# EAGLE library part 61083-063402LF (library mezza)
61083-063402LF Amphenol FCI 61083-063402LF Connector Headers and PCB Receptacles MANUFACTURER : Amphenol FCI DESCRIPTION : Conn Fine Pitch Connector PL 60 POS 0.8mm Solder ST SMD T/R Note: DragonBoard 410c HS Connector This fine pitch connector 61083-063402LF header connector from FCI reduces the possibility of accidentally shorting pins when a board is being used. This PL connector's 60 contacts that are made out of brass and plated with gold over nickel. It has a plug type gender. Its pitch is 0.8 mm. It has a straight body orientation. It has a maximum voltage rating of 100 VAC. This is a 2-row connector. This device has a maximum current rating of 0.8 A/contact. Tape and reel packaging will encase the product during shipment, ensuring safe delivery and enabling quick mounting of components. This product is 29.8 mm long, 6.7 mm tall and 6 mm deep. 61083-063402LF is housed in liquid crystal polymer. It uses the solder termination method. This connector has an operating temperature of -40 to 125 °C.
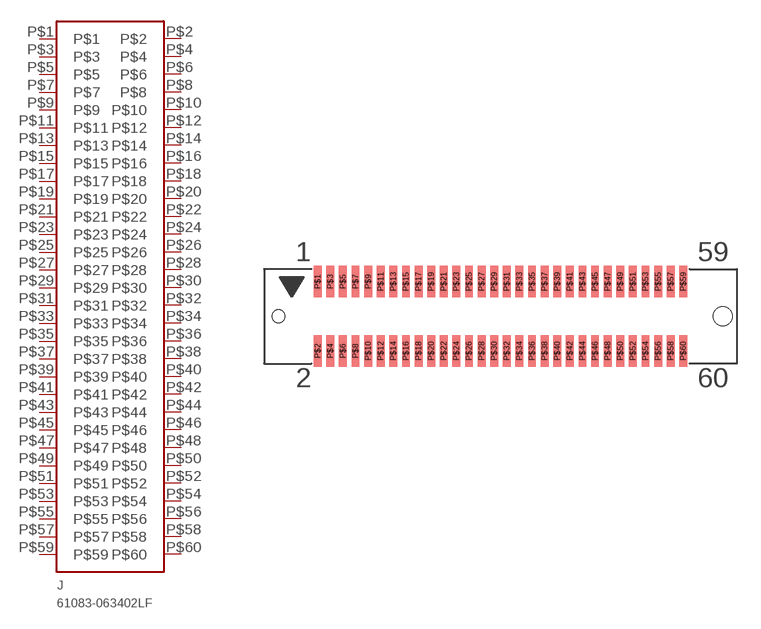
[diagram p1: symbol with the pads of 61083-063402LF; footprint 61083-063402LF]

Designator prefix J

## 61083-063402LF  [61083-063402LF]
P$1  P$1
P$2  P$2
P$3  P$3
P$4  P$4
P$5  P$5
P$6  P$6
P$7  P$7
P$8  P$8
P$9  P$9
P$10  P$10
P$11  P$11
P$12  P$12
P$13  P$13
P$14  P$14
P$15  P$15
P$16  P$16
P$17  P$17
P$18  P$18
P$19  P$19
P$20  P$20
P$21  P$21
P$22  P$22
P$23  P$23
P$24  P$24
P$25  P$25
P$26  P$26
P$27  P$27
P$28  P$28
P$29  P$29
P$30  P$30
P$31  P$31
P$32  P$32
P$33  P$33
P$34  P$34
P$35  P$35
P$36  P$36
P$37  P$37
P$38  P$38
P$39  P$39
P$40  P$40
P$41  P$41
P$42  P$42
P$43  P$43
P$44  P$44
P$45  P$45
P$46  P$46
P$47  P$47
P$48  P$48
P$49  P$49
P$50  P$50
P$51  P$51
P$52  P$52
P$53  P$53
P$54  P$54
P$55  P$55
P$56  P$56
P$57  P$57
P$58  P$58
P$59  P$59
P$60  P$60

## Footprint 61083-063402LF (pad centres in mm)
smd 0.5 x 2: P$1 -11.6,2.2; P$2 -11.6,-2.2; P$3 -10.8,2.2; P$4 -10.8,-2.2; P$5 -10,2.2; P$6 -10,-2.2; P$7 -9.2,2.2; P$8 -9.2,-2.2; P$9 -8.4,2.2; P$10 -8.4,-2.2; P$11 -7.6,2.2; P$12 -7.6,-2.2; P$13 -6.8,2.2; P$14 -6.8,-2.2; P$15 -6,2.2; P$16 -6,-2.2; P$17 -5.2,2.2; P$18 -5.2,-2.2; P$19 -4.4,2.2; P$20 -4.4,-2.2; P$21 -3.6,2.2; P$22 -3.6,-2.2; P$23 -2.8,2.2; P$24 -2.8,-2.2; P$25 -2,2.2; P$26 -2,-2.2; P$27 -1.2,2.2; P$28 -1.2,-2.2; P$29 -0.4,2.2; P$30 -0.4,-2.2; P$31 0.4,2.2; P$32 0.4,-2.2; P$33 1.2,2.2; P$34 1.2,-2.2; P$35 2,2.2; P$36 2,-2.2; P$37 2.8,2.2; P$38 2.8,-2.2; P$39 3.6,2.2; P$40 3.6,-2.2; P$41 4.4,2.2; P$42 4.4,-2.2; P$43 5.2,2.2; P$44 5.2,-2.2; P$45 6,2.2; P$46 6,-2.2; P$47 6.8,2.2; P$48 6.8,-2.2; P$49 7.6,2.2; P$50 7.6,-2.2; P$51 8.4,2.2; P$52 8.4,-2.2; P$53 9.2,2.2; P$54 9.2,-2.2; P$55 10,2.2; P$56 10,-2.2; P$57 10.8,2.2; P$58 10.8,-2.2; P$59 11.6,2.2; P$60 11.6,-2.2
hole 1.2 at 14.1,0
hole 0.8 at -14.1,0